# EAGLE library part 74AC11004D_D (library EW_IC_74_Logic)
7404 Hex Inverter. Category: Gates Manufacturer: Texas Instruments
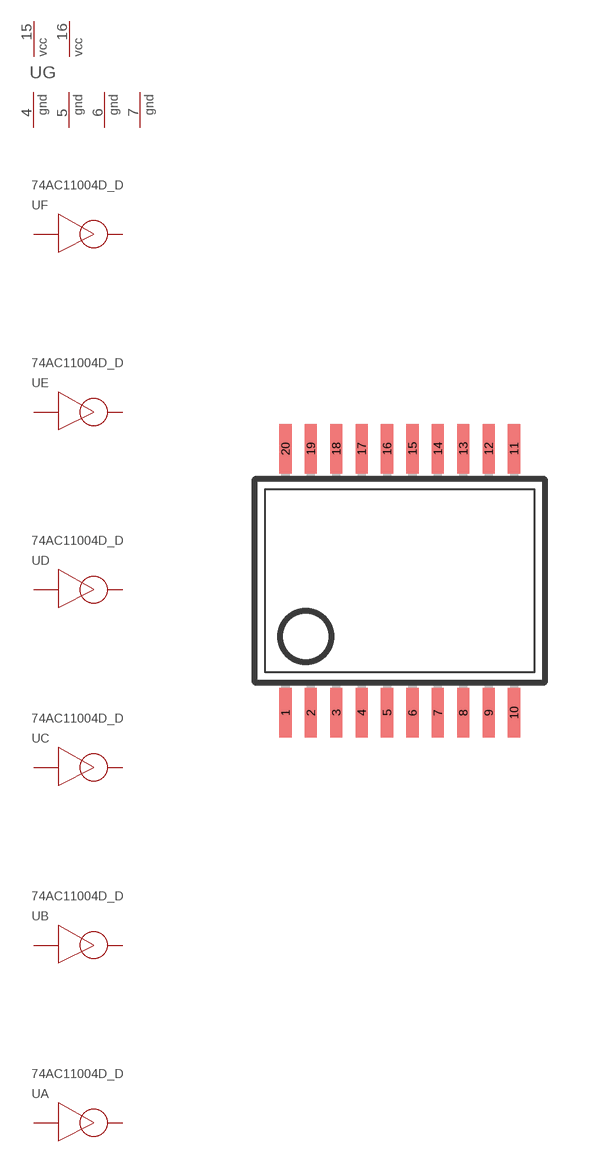
[diagram p1: symbol with the pads of SSOP20DB; footprint SSOP20DB]

Designator prefix U; gates A=INVERTER B=INVERTER C=INVERTER D=INVERTER E=INVERTER F=INVERTER G=2PWR4GND

## 74AC11004D_D  [SSOP20DB]
1  A:OUT  pwr
2  B:OUT  pwr
3  C:OUT  pwr
4  G:GND  pwr
5  G:GND  pwr
6  G:GND  pwr
7  G:GND  pwr
8  D:OUT  pwr
9  E:OUT  pwr
10  F:OUT  pwr
11  F:IN  pwr
12  E:IN  pwr
13  D:IN  pwr
15  G:VCC  pwr
16  G:VCC  pwr
18  C:IN  pwr
19  B:IN  pwr
20  A:IN  pwr

## Footprint SSOP20DB (pad centres in mm)
Small Shrink Outline Package
smd 0.305 x 1.245: 1 -2.857,-3.302; 2 -2.222,-3.302; 3 -1.587,-3.302; 4 -0.952,-3.302; 5 -0.317,-3.302; 6 0.318,-3.302; 7 0.953,-3.302; 8 1.588,-3.302; 9 2.223,-3.302; 10 2.858,-3.302; 11 2.858,3.302; 12 2.223,3.302; 13 1.588,3.302; 14 0.953,3.302; 15 0.318,3.302; 16 -0.317,3.302; 17 -0.952,3.302; 18 -1.587,3.302; 19 -2.222,3.302; 20 -2.857,3.302